# Altium schematic symbol library Test_Points.SCHLIB: 9 symbols
Pins are listed as number, name and electrical type; pins without a type are passive.

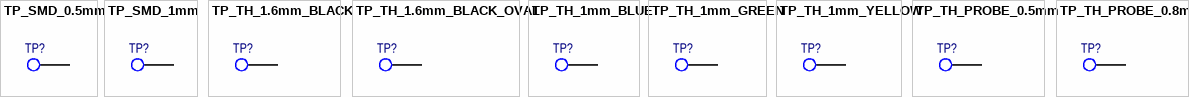
[diagram p0: symbols TP_SMD_0.5mm to TP_TH_PROBE_0.8mm]

## TP_SMD_0.5mm
designator TP?  (value not drawn)  (no BOM)
Test Point, SMD Pad, 0.5 mm; Manufacturer: *; Manufacturer Part Number 1: *; Supplier 1: *; Supplier Part Number 1: *; Value: TP_SMD_0.5mm
footprint TP_SMD_0.5mm (Test Point, SMD Pad, 0.5 mm)
pins: 0

## TP_SMD_1mm
designator TP?  (value not drawn)  (no BOM)
Test Point, SMD Pad, 1 mm; Manufacturer: *; Manufacturer Part Number 1: *; Supplier 1: *; Supplier Part Number 1: *; Value: TP_SMD_1mm
footprint TP_SMD_1mm (Test Point, SMD Pad, 1 mm)
pins: 0

## TP_TH_1.6mm_BLACK
designator TP?, comment Keystone Electronics 5006  (value not drawn)  (no BOM)
Test Point, TH, Black, 1.6mm hole; Manufacturer Part Number 1: 5006; Value: TP_TH_1.6mm_BLACK; Manufacturer: Keystone Electronics; ComponentLink1Description: Supplier Info; ComponentLink1URL: https://www.digikey.com/en/products/detail/keystone-electronics/5006/255330?s=N4IgTCBcDaIMwDYC0BWADG5A5AIiAugL5A; ComponentLink2Description: Datasheet; ComponentLink2URL: https://www.keyelco.com/userAssets/file/M65p56.pdf; Supplier 1: Digi-Key; Supplier Part Number 1: 36-5006-ND
footprint TP_TH_1.6mm_BLACK (Test Point, TH, Black, 1.6mm hole)
pins: 0

## TP_TH_1.6mm_BLACK_OVAL
designator TP?, comment Keystone Electronics 5011  (value not drawn)  (no BOM)
Test Point, TH, Black, 1.6mm hole; Manufacturer Part Number 1: 5011; Value: TP_TH_1.6mm_BLACK_OVAL; Manufacturer: Keystone Electronics; Supplier 1: Digi-Key; Supplier Part Number 1: 36-5011-ND; ComponentLink1Description: Supplier Info; ComponentLink1URL: https://www.digikey.com/en/products/detail/keystone-electronics/5011/255333?s=N4IgTCBcDaIMwDYC0BWADARg0gcgERAF0BfIA; ComponentLink2Description: Datasheet; ComponentLink2URL: https://www.keyelco.com/userAssets/file/M65p56.pdf
footprint TP_TH_1.6mm_BLACK_OVAL (Test Point, TH, Black, 1.6mm hole)
pins: 0

## TP_TH_1mm_BLUE
designator TP?, comment Keystone Electronics 5117  (value not drawn)  (no BOM)
Test Point, TH, Blue, 1mm hole; Manufacturer Part Number 1: 5117; Value: TP_TH_1mm_BLUE; Manufacturer: Keystone Electronics; ComponentLink1Description: Supplier Info; ComponentLink1URL: https://www.digikey.com/en/products/detail/keystone-electronics/5117/2170320?s=N4IgTCBcDaIMwDYC0BWAjGg7EgcgERAF0BfIA; ComponentLink2Description: Datasheet; ComponentLink2URL: https://www.keyelco.com/userAssets/file/M65p56.pdf; Supplier 1: Digi-Key; Supplier Part Number 1: 36-5117-ND
footprint TP_TH_1mm_BLUE (Test Point, TH, Blue, 1mm hole)
pins: 0

## TP_TH_1mm_GREEN
designator TP?, comment Keystone Electronics 5116  (value not drawn)  (no BOM)
Test Point, TH, Green, 1mm hole; Manufacturer Part Number 1: 5116; Value: TP_TH_1mm_GREEN; Manufacturer: Keystone Electronics; ComponentLink1Description: Supplier Info; ComponentLink1URL: https://www.digikey.com/en/products/detail/keystone-electronics/5116/2170319?s=N4IgTCBcDaIMwDYC0BWAjG5A5AIiAugL5A; ComponentLink2Description: Datasheet; ComponentLink2URL: https://www.keyelco.com/userAssets/file/M65p56.pdf; Supplier 1: Digi-Key; Supplier Part Number 1: 36-5116-ND
footprint TP_TH_1mm_GREEN (Test Point, TH, Green, 1mm hole)
pins: 0

## TP_TH_1mm_YELLOW
designator TP?, comment Keystone Electronics 5004  (value not drawn)  (no BOM)
Test Point, TH, Yellow, 1mm hole; Manufacturer Part Number 1: 5004; Value: TP_TH_1mm_YELLOW; Manufacturer: Keystone Electronics; ComponentLink1Description: Supplier Info; ComponentLink1URL: https://www.digikey.com/en/products/detail/keystone-electronics/5004/362669?s=N4IgTCBcDaIMwDYC0BWADGgLEgcgERAF0BfIA; ComponentLink2Description: Datasheet; ComponentLink2URL: https://www.keyelco.com/userAssets/file/M65p56.pdf; Supplier 1: Digi-Key; Supplier Part Number 1: 36-5004-ND
footprint TP_TH_1mm_YELLOW (Test Point, TH, Yellow, 1mm hole)
pins: 0

## TP_TH_PROBE_0.5mm
designator TP?  (value not drawn)  (no BOM)
Test Point, TH for Probe, 0.5mm hole; Manufacturer: *; Manufacturer Part Number 1: *; Supplier 1: *; Supplier Part Number 1: *; Value: TP_TH_PROBE_0.5mm
footprint TP_TH_PROBE_0.5mm (Test Point, TH for Probe, 0.5mm hole)
pins: 0

## TP_TH_PROBE_0.8mm
designator TP?  (value not drawn)  (no BOM)
Test Point, TH for Probe, 0.8mm hole; Manufacturer: *; Manufacturer Part Number 1: *; Supplier 1: *; Supplier Part Number 1: *; Value: TP_TH_PROBE_0.8mm
footprint TP_TH_PROBE_0.8mm (Test Point, TH for Probe, 0.8mm hole)
pins: 0